# Altium schematic symbol library OpAmps$.SchLib: 12 symbols
Pins are listed as number, name and electrical type; pins without a type are passive.

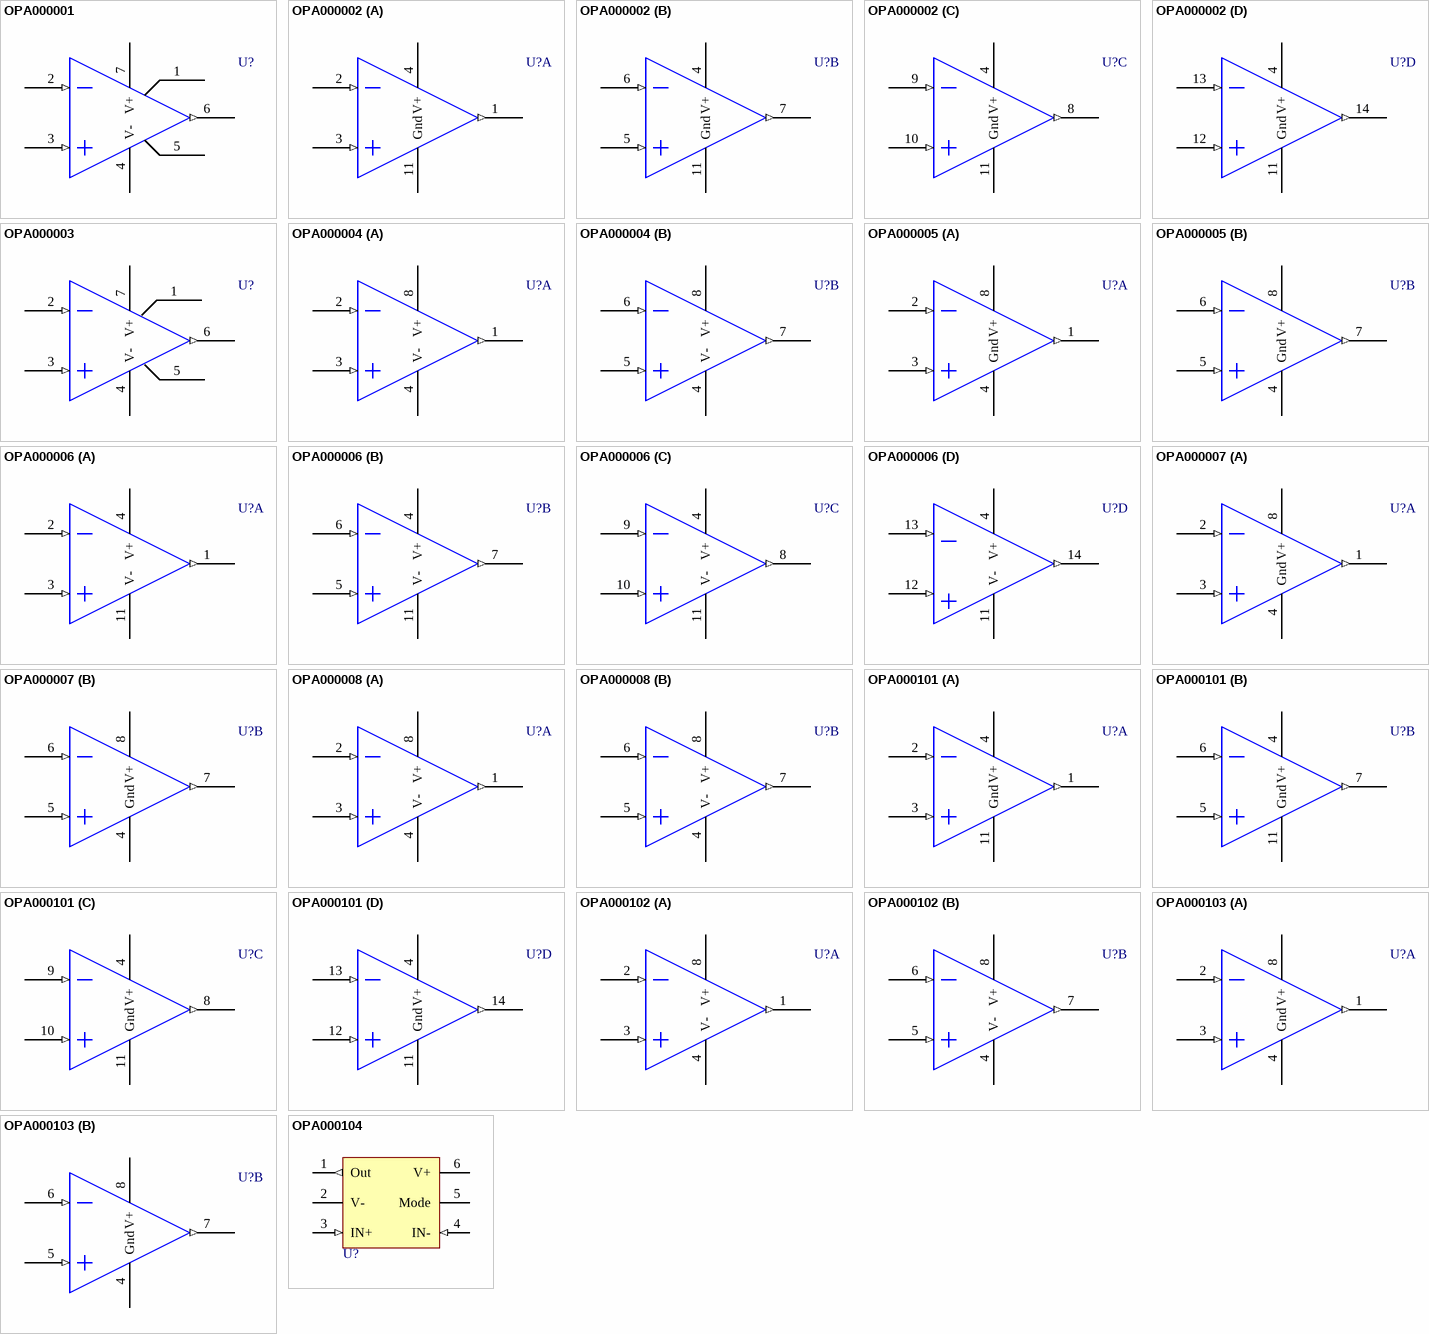
[diagram p0: symbols OPA000001 to OPA000104]

## OPA000001
designator U?, comment LM741CN  (value not drawn)
IC OP AMP LM741 TH; Manufactuer: Texas instruments; Manufacturer-PN: LM741CN/NOPB; UoA Stock#: OPA000001; Assembly Method: Through hole; Item Type: Item; Path: ece/ts/Lists/Stock Inventory; Value: LM741; Size/Package: DIP8; Datasheet Link: http://share.engineering.auckland.ac.nz/ece/ts/Student%20Documents/LM741.pdf; Supplier1: Digikey; Supplier1-PN: LM741CNNS/NOPB-ND; Supplier2: Element14; Supplier2-PN: 1417641; Category: OpAmp; Status: Active
footprint ECE-DIP8TH
pins: 1 Offset Null, 2 In(-) (in), 3 In(+) (in), 4 V- (power), 5 Offset Null, 6 Vout (out), 7 V+ (power)

## OPA000002
designator U?, comment LM324N  (value not drawn)
IC OPAMP LM324 QUAD TH; Manufactuer: Texas instruments; UoA Stock#: OPA000002; Assembly Method: Through hole; Item Type: Item; Path: ece/ts/Lists/Stock Inventory; Value: LM324N; Size/Package: DIP14; Manufacturer-PN: LM324N; Datasheet Link: http://share.engineering.auckland.ac.nz/ece/ts/Student%20Documents/LM324.pdf; Supplier1: Digikey; Supplier1-PN: 296-1391-5-ND; Supplier2: Active Components; Supplier2-PN: LM324N; Category: OpAmp; Status: Active
footprint ECE-DIP14TH
pins on every part: 4 V+ (power), 11 Gnd (power)
part A pins: 1 OUT1 (out), 2 IN1(-) (in), 3 IN1(+) (in)
part B pins: 5 IN2+) (in), 6 IN2(-) (in), 7 OUT2 (out)
part C pins: 8 OUT3 (out), 9 IN3(-) (in), 10 IN3(+) (in)
part D pins: 12 IN4(+) (in), 13 IN4(-) (in), 14 OUT4 (out)

## OPA000003
designator U?, comment LF351N  (value not drawn)
IC OPAMP LF351 TH; Manufactuer: ST Microelectronics; UoA Stock#: OPA000003; Assembly Method: Through hole; Item Type: Item; Path: ece/ts/Lists/Stock Inventory; Value: LF351N; Size/Package: DIP8; Manufacturer-PN: LF351N; Datasheet Link: http://share.engineering.auckland.ac.nz/ece/ts/Student%20Documents/LF351.pdf; Supplier1: Element14; Supplier1-PN: 1366577; Category: OpAmp; Status: Active
footprint ECE-DIP8TH
pins: 1 Offset Null 1, 2 In(-) (in), 3 In(+) (in), 4 V- (power), 5 Offset Null 2, 6 Vout (out), 7 V+ (power)

## OPA000004
designator U?, comment LF353N  (value not drawn)
IC OPAMP LF353 TH; Manufactuer: Fairchild; UoA Stock#: OPA000004; Assembly Method: Through hole; Item Type: Item; Path: ece/ts/Lists/Stock Inventory; Value: LF353N; Size/Package: DIP8; Manufacturer-PN: LF353N; Datasheet Link: http://share.engineering.auckland.ac.nz/ece/ts/Student%20Documents/LF353.pdf; Supplier1: Digikey; Supplier1-PN: LF353NFS-ND; Supplier2: Element14; Supplier2-PN: 9487034; Category: OpAmp; Status: Active
footprint ECE-DIP8TH
pins on every part: 4 V- (power), 8 V+ (power)
part A pins: 1 OUT1 (out), 2 IN1(-) (in), 3 IN1(+) (in)
part B pins: 5 IN2(+) (in), 6 IN2(-) (in), 7 OUT2 (out)

## OPA000005
designator U?, comment LM358  (value not drawn)
IC OPAMP LM358 DUAL TH; Manufactuer: Fairchild; Manufacturer-PN: LM358N; UoA Stock#: OPA000005; Assembly Method: Through hole; Item Type: Item; Path: ece/ts/Lists/Stock Inventory; Value: LM358; Size/Package: DIP8; Datasheet Link: http://share.engineering.auckland.ac.nz/ece/ts/Student%20Documents/LM358.pdf; Supplier1: Digikey; Supplier1-PN: LM358NFS-ND; Supplier2: Active Components; Supplier2-PN: LM358N; Category: OpAmp; Status: Active
footprint ECE-DIP8TH
pins on every part: 4 Gnd (power), 8 V+ (power)
part A pins: 1 OUT1 (out), 2 IN1(-) (in), 3 IN1(+) (in)
part B pins: 5 IN2(+) (in), 6 IN2(-) (in), 7 OUT2 (out)

## OPA000006
designator U?, comment LF347  (value not drawn)
IC OPAMP LF347 QUAD TH; Manufactuer: Texas; Manufacturer-PN: LF347N; UoA Stock#: OPA000006; Assembly Method: Through hole; Item Type: Item; Path: ece/ts/Lists/Stock Inventory; Value: LF347; Size/Package: DIP14; Datasheet Link: http://share.engineering.auckland.ac.nz/ece/ts/Student%20Documents/LF347.pdf; Supplier1: Digikey; Supplier1-PN: 296-7138-5-ND; Supplier2: Active Components; Supplier2-PN: LF347N; Category: OpAmp; Status: Active
footprint ECE-DIP14TH
pins on every part: 4 V+ (power), 11 V- (power)
part A pins: 1 OUT1 (out), 2 IN1(-) (in), 3 IN1(+) (in)
part B pins: 5 IN2(+) (in), 6 IN2(-) (in), 7 OUT2 (out)
part C pins: 8 OUT3 (out), 9 IN3(-) (in), 10 IN3(+) (in)
part D pins: 12 IN4(+) (in), 13 IN4(-) (in), 14 OUT4 (out)

## OPA000007
designator U?, comment TL082  (value not drawn)
IC OPAMP TL082 DUAL TH; Manufactuer: Texas; Manufacturer-PN: TLC082CPE4; UoA Stock#: OPA000007; Assembly Method: Through hole; Item Type: Item; Path: ece/ts/Lists/Stock Inventory; Value: TL082; Size/Package: DIP8; Datasheet Link: http://share.engineering.auckland.ac.nz/ece/ts/Student%20Documents/TLC082.pdf; Supplier1: Digikey; Supplier1-PN: 296-7269-5-ND; Supplier2: Mouser; Supplier2-PN: 595-TLC082CPE4; Category: OpAmp; Status: Active
footprint ECE-DIP8TH
pins on every part: 4 Gnd (power), 8 V+ (power)
part A pins: 1 OUT1 (out), 2 IN1(-) (in), 3 IN1(+) (in)
part B pins: 5 IN2(+) (in), 6 IN2(-) (in), 7 OUT2 (out)

## OPA000008
designator U?, comment LM393  (value not drawn)
IC COMPARATOR LM393 DUAL TH; Manufactuer: Fairchild; Manufacturer-PN: LM393N; UoA Stock#: OPA000008; Assembly Method: Through hole; Item Type: Item; Path: ece/ts/Lists/Stock Inventory; Value: LM393; Size/Package: DIP8; Datasheet Link: http://share.engineering.auckland.ac.nz/ece/ts/Student%20Documents/LM393.pdf; Supplier1: Digikey; Supplier1-PN: LM393NFS-ND; Category: OpAmp; Status: Active
footprint ECE-DIP8TH
pins on every part: 4 V- (power), 8 V+ (power)
part A pins: 1 OUT1 (out), 2 IN1(-) (in), 3 IN1(+) (in)
part B pins: 5 IN2(+) (in), 6 IN2(-) (in), 7 OUT2 (out)

## OPA000101
designator U?, comment LM324  (value not drawn)
IC OPAMP LM324 SM; Manufactuer: Fairchild; Manufacturer-PN: LM324MX; UoA Stock#: OPA000101; Assembly Method: Surface Mount; Item Type: Item; Path: ece/ts/Lists/Stock Inventory; Value: LM324; Size/Package: SOIC-14; Datasheet Link: http://share.engineering.auckland.ac.nz/ece/ts/Student%20Documents/LM324SM.pdf; Supplier1: Digikey; Supplier1-PN: LM324MXFSDKR-ND; Component Type: SOIC14-LM324; Category: OpAmp; Status: Active
footprint ECE-SO14
pins on every part: 4 V+ (power), 11 Gnd (power)
part A pins: 1 OUT1 (out), 2 IN1(-) (in), 3 IN1(+) (in)
part B pins: 5 IN2+) (in), 6 IN2(-) (in), 7 OUT2 (out)
part C pins: 8 OUT3 (out), 9 IN3(-) (in), 10 IN3(+) (in)
part D pins: 12 IN4(+) (in), 13 IN4(-) (in), 14 OUT4 (out)

## OPA000102
designator U?, comment LT6221  (value not drawn)
IC OPAMP LT6221 DUAL SM; Manufactuer: Linear Technology; Manufacturer-PN: LT6221CS8#TRPBF; UoA Stock#: OPA000102; Assembly Method: Surface Mount; Item Type: Item; Path: ece/ts/Lists/Stock Inventory; Value: LT6221; Size/Package: S8; Datasheet Link: http://share.engineering.auckland.ac.nz/ece/ts/Student%20Documents/LT6221.pdf; Supplier1: Arrow; Supplier1-PN: LT6221CS8#TRPBF; Supplier2: Digikey; Supplier2-PN: LT6221CS8#PBF-ND; Component Type: S8-LT6221; Category: OpAmp; Status: Active
footprint ECE-SO8
pins on every part: 4 V- (power), 8 V+ (power)
part A pins: 1 OUT1 (out), 2 IN1(-) (in), 3 IN1(+) (in)
part B pins: 5 IN2(+) (in), 6 IN2(-) (in), 7 OUT2 (out)

## OPA000103
designator U?, comment TLC082  (value not drawn)
IC OPAMP TLC082 GP 10MHZ 8SOIC; Manufactuer: Texas Instruments; Manufacturer-PN: TLC082IDR; UoA Stock#: OPA000103; Assembly Method: Surface Mount; Item Type: Item; Path: ece/ts/Lists/Stock Inventory; Value: TLC082; Size/Package: SOIC 8; Datasheet Link: http://share.engineering.auckland.ac.nz/ece/ts/Student%20Documents/TLC082.pdf; Supplier1: Digikey; Supplier1-PN: 296-7271-6-ND; Component Type: SOIC18-TLC082; Category: OpAmp; Status: Active
footprint ECE-SOIC8
pins on every part: 4 Gnd (power), 8 V+ (power)
part A pins: 1 OUT1 (out), 2 IN1(-) (in), 3 IN1(+) (in)
part B pins: 5 IN2(+) (in), 6 IN2(-) (in), 7 OUT2 (out)

## OPA000104
designator U?, comment OPA625  (value not drawn)
IC ADC Converter OPA625; Manufactuer: Texas instrumants; Manufacturer-PN: OPA625IDBVT; UoA Stock#: OPA000104; Assembly Method: Surface Mount; Value: OPA625; Size/Package: SO-G6; Supplier1: Digikey; Supplier1-PN: 296-42091-1-ND; Component Type: SOG6-OPA625; Category: OpAmp; Status: Non Stocked
footprint ECE-SOG6
pins: 1 Out (out), 2 V- (power), 3 IN+ (in), 4 IN- (in), 5 Mode, 6 V+ (power)